# Altium footprint library 1_to_5_Pin.PcbLib: 194 footprints (part 1 of 13)
Each footprint in its own frame and in the unit in brackets; x right, y up, seen from the top. Pads: shape width x height; smd on the part's side, far side on the other; paste and mask are expansions set on the pad; w line width, h text height; cw(c..) or ccw(c..) is an arc to the next point about the centre after c.
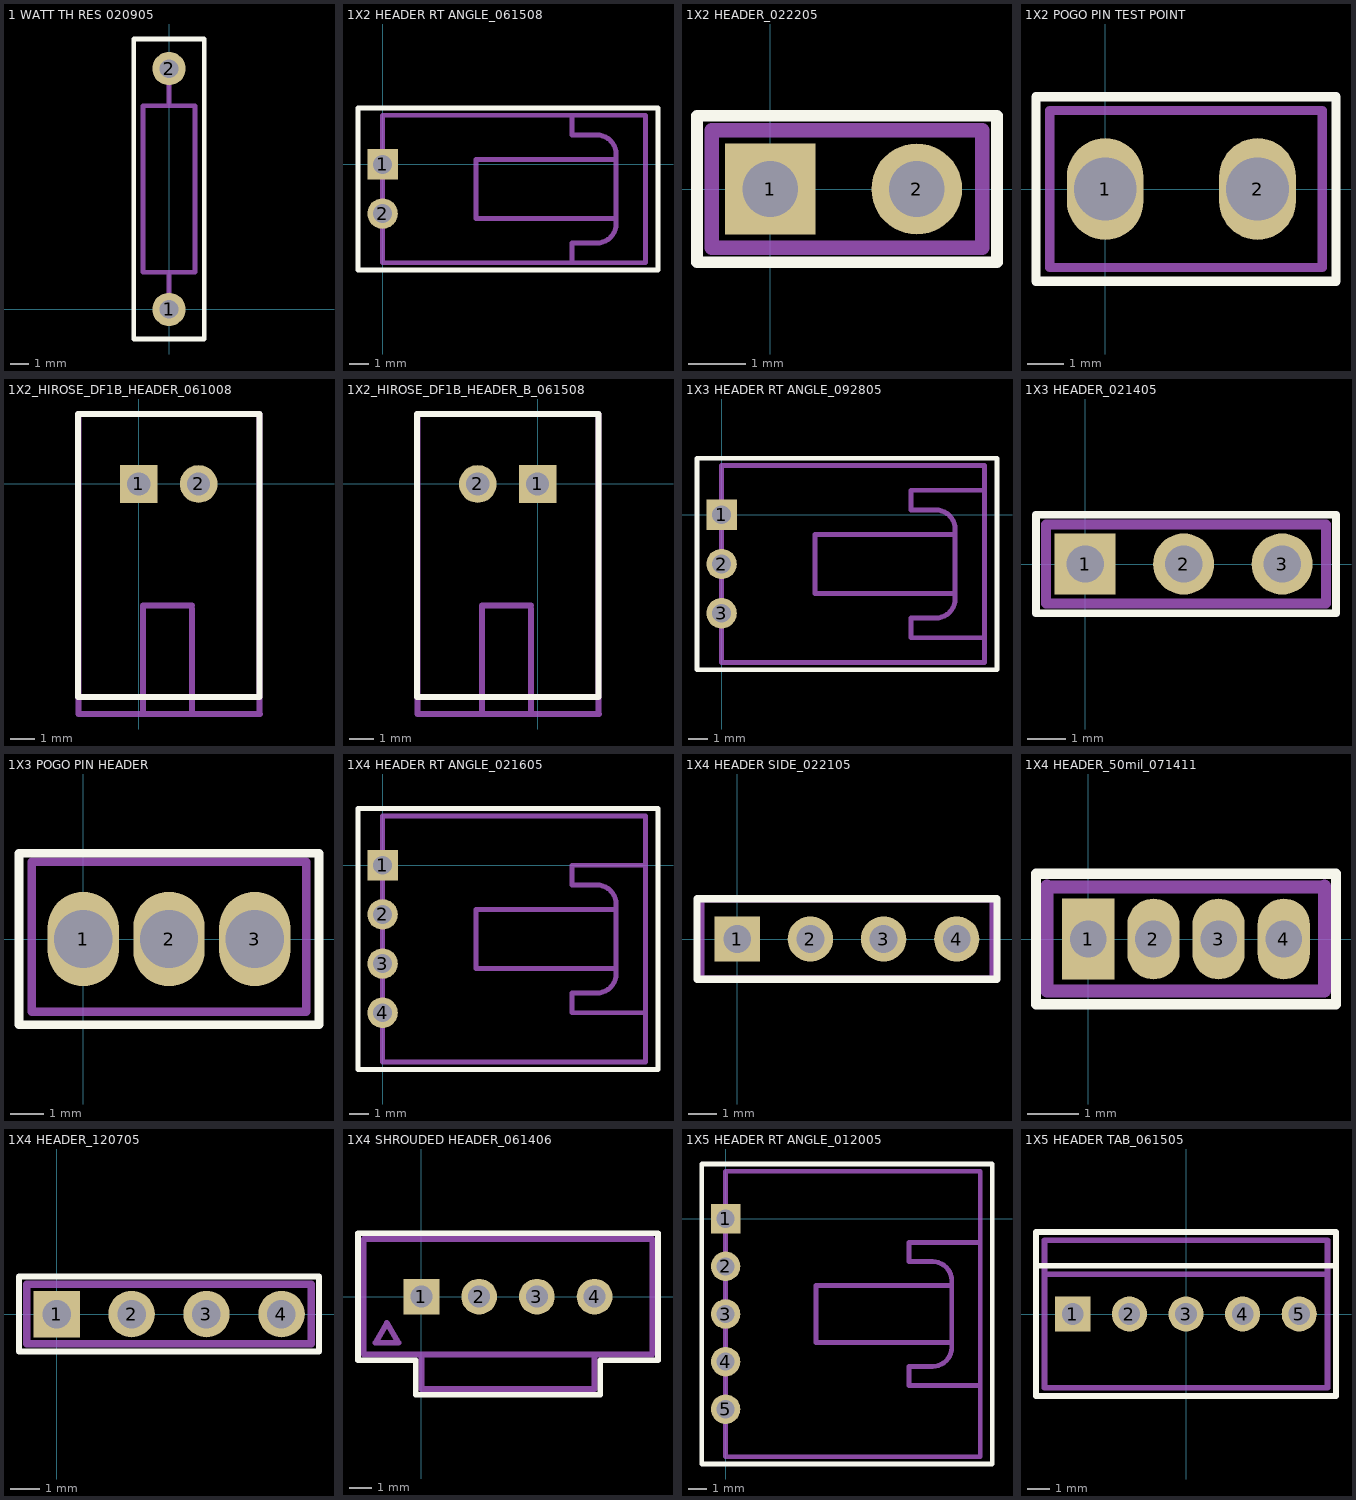
[diagram p0: the footprints below, top view; thin cyan lines are the x and y axes]

## 1 WATT TH RES 020905 [mm] "TH"
height 3.175
pads (2):
  round 1.8 hole 1: 1(0,0) 2(0,13)
Top Overlay:
  lines w0.254: -1.9,-1.6 1.9,-1.6 1.9,14.6 0,14.6 -1.9,14.6 -1.9,-1.6
Assembly Outline:
  lines w0.254: 0,0 0,2 1.4,2 ; 0,13 0,11 -1.4,11 ; -1.4,11 1.4,11 1.4,2 ; -1.4,11 -1.4,2 1.4,2
Assembly Designator:
  text ".Designator" at -2.286,2.794 h1.52
Assembly Comment:
  text ".Comment" at 3.556,3.683 h1.52

## 1X2 HEADER RT ANGLE_061508 [mil] "TH"
height 200
pads (2):
  rect 62x62 hole 38: 1(0,0)
  round 62 hole 38: 2(0,-100)
Top Overlay:
  lines w10: -50,-215 560,-215 560,115 -50,115 -50,-215
Assembly Outline:
  lines w10: 385,-200 385,-160 435,-160 ccw(c435,-120) 475,-120 475,-50 475,20 ccw(c435,20) 435,60 385,60 385,100 ; 475,-110 190,-110 190,10 475,10 ; 0,-200 535,-200 535,100 0,100 0,-200
Assembly Designator:
  text ".Designator" at 215,-65 h40
Assembly Comment:
  text ".Comment" at 10,-265 h40

## 1X2 HEADER_022205 [mil] "TH"
height 315
pads (2):
  rect 62x62 hole 38: 1(0,0)
  round 62 hole 38: 2(100,0)
Top Overlay:
  lines w8: -50,-50 154.72,-50 154.72,50 -50,50 -50,-50
Assembly Outline:
  lines w10: -40,-40 144.72,-40 144.72,40 -40,40 -40,-40 ; -15,-15 -15,15 15,15 15,-15 -15,-15 ; 85,-15 85,15 115,15 115,-15 85,-15
Assembly Designator:
  text ".Designator" at -20,-20 h40
Assembly Comment:
  text ".Comment" at -75,-100 h40

## 1X2 POGO PIN TEST POINT [mil] "TH"
height 750
pads (2):
  oval 83x110 hole 68: 1(0,0) 2(165,0)
Top Overlay:
  lines w10: -75,-100 250,-100 250,100 0,100 -75,100 -75,-100
Assembly Outline:
  lines w10: -60,-85 235,-85 235,85 -60,85 -60,-85
Assembly Designator:
  text ".Designator" at 50,-15 h40
Assembly Comment:
  text ".Comment" at -80,-145 h40

## 1X2_HIROSE_DF1B_HEADER_061008 [mil] "TH"
height 225
pads (2):
  rect 62x62 hole 38: 1(0,0)
  round 62 hole 38: 2(98.43,0)
Top Overlay:
  lines w10: -99.87,-350 -99.87,115 198.3,115 198.3,-350 -99.87,-350
Assembly Outline:
  lines w10: 7.13,-375 7.13,-200 87.13,-200 ; 87.13,-375 87.13,-205 ; 198.3,-378 198.3,115 -99.37,115 -99.37,-378 199.21,-378
Assembly Designator:
  text ".Designator" at -31.87,132 h40
Assembly Comment:
  text ".Comment" at -50.87,-93 h40

## 1X2_HIROSE_DF1B_HEADER_B_061508 [mil] "TH"
height 225
pads (2):
  rect 62x62 hole 38: 1(0,0)
  round 62 hole 38: 2(-98.43,0)
Top Overlay:
  lines w10: -198.3,-350 99.87,-350 99.87,115 -198.3,115 -198.3,-350
Assembly Outline:
  lines w10: -91.3,-375 -91.3,-200 -11.3,-200 ; -11.3,-375 -11.3,-205 ; 99.87,-378 99.87,115 -197.8,115 -197.8,-378 100.79,-378
Assembly Designator:
  text ".Designator" at -130.3,132 h40
Assembly Comment:
  text ".Comment" at -149.3,-93 h40

## 1X3 HEADER RT ANGLE_092805 [mil] "TH"
height 200
pads (3):
  rect 62x62 hole 38: 1(0,0)
  round 62 hole 38: 2(0,-100) 3(0,-200)
Top Overlay:
  lines w10: -50,-315 -50,115 560,115 560,-315 -50,-315
Assembly Outline:
  lines w10: 475,-160 190,-160 190,-40 475,-40 ; 535,-250 385,-250 385,-210 435,-210 ccw(c435,-170) 475,-170 475,-100 475,-30 ccw(c435,-30) 435,10 385,10 385,50 535,50 ; 0,-300 0,100 535,100 535,-300 0,-300
Assembly Designator:
  text ".Designator" at 215,-115 h40
Assembly Comment:
  text ".Comment" at 135,-370 h40

## 1X3 HEADER_021405 [mil] "TH"
height 375
pads (3):
  rect 62x62 hole 38: 1(0,0)
  round 62 hole 38: 2(100,0) 3(200,0)
Top Overlay:
  lines w8: -50,-50 254.72,-50 254.72,50 -50,50 -50,-50
Assembly Outline:
  lines w10: -40,-40 244.72,-40 244.72,40 -40,40 -40,-40 ; -10,-10 10,-10 10,10 -10,10 -10,-10 ; 90,-10 90,10 110,10 110,-10 90,-10 ; 190,-10 190,10 210,10 210,-10 190,-10
Assembly Designator:
  text ".Designator" at -20,-15 h40
Assembly Comment:
  text ".Comment" at -40,-100 h40

## 1X3 POGO PIN HEADER [mil] "TH"
height 350
pads (3):
  oval 83x110 hole 68: 1(0,0) 2(100,0) 3(200,0)
Top Overlay:
  lines w10: -75,-100 275,-100 275,100 100,100 -75,100 -75,-100
Assembly Outline:
  lines w10: -60,-85 260,-85 260,90 -60,90 -60,-85
Assembly Designator:
  text ".Designator" at 40,120 h40
Assembly Comment:
  text ".Comment" at -70,-150 h40

## 1X4 HEADER RT ANGLE_021605 [mil] "TH"
height 200
pads (4):
  rect 62x62 hole 38: 1(0,0)
  round 62 hole 38: 2(0,-100) 3(0,-200) 4(0,-300)
Top Overlay:
  lines w10: -50,-415 -50,115 560,115 560,-415 -50,-415
Assembly Outline:
  lines w10: 0,-400 0,100 ; 0,-400 535,-400 ; 0,-400 535,-400 ; 0,-400 535,-400 ; 0,-400 535,-400 ; 0,-400 0,100 ; 0,100 535,100 ; 0,100 535,100 ; 0,100 535,100 ; 0,100 535,100 ; 190,-210 475,-210 190,-210 ; 190,-210 190,-90 ; 190,-90 475,-90 190,-90 ; 385,-300 535,-300 385,-300 ; 385,-300 385,-260 435,-260 ccw(c435,-220) 475,-220 475,-150 475,-80 ccw(c435,-80) 435,-40 385,-40 385,0 ; 385,0 535,0 385,0 ; 535,-400 535,100
Assembly Designator:
  text ".Designator" at 195,-165 h40
Assembly Comment:
  text ".Comment" at 55,-370 h40

## 1X4 HEADER SIDE_022105 [mil] "TH"
height 315
pads (4):
  rect 62x62 hole 38: 1(0,0)
  round 62 hole 38: 2(100,0) 3(200,0) 4(300,0)
Top Overlay:
  lines w10: -55,-55 355,-55 355,55 -55,55 -55,-55
Assembly Outline:
  lines w10: -50,-55 350,-55 350,55 150,55 -50,55 -50,-55 ; -15,-15 15,-15 15,15 -15,15 -15,-15 ; 85,-15 115,-15 115,15 85,15 85,-15 ; 185,-15 215,-15 215,15 185,15 185,-15 ; 285,-15 315,-15 315,15 285,15 285,-15
Assembly Designator:
  text ".Designator" at 10,-20 h40
Assembly Comment:
  text ".Comment" at -40,-110 h40

## 1X4 HEADER_50mil_071411 [mil] "TH"
height 315
pads (4):
  rect 40x62 hole 28 mask+2: 1(0,0)
  oval 40x62 hole 28 mask+2: 2(50,0) 3(100,0) 4(150,0)
Top Overlay:
  lines w8: -40,-50 190,-50 190,50 -40,50 -40,-50
Assembly Outline:
  lines w10: -31.5,-40 181,-40 ; -31.5,-39.37 -31.5,40.63 ; -31.5,40 181,40 ; 181.1,-39.37 181.1,40.63 ; -7.87,-7.87 7.87,-7.87 7.87,7.87 -7.87,7.87 -7.87,-7.87 ; 42.13,-7.87 57.87,-7.87 57.87,7.87 42.13,7.87 42.13,-7.87 ; 92.13,-7.87 107.87,-7.87 107.87,7.87 92.13,7.87 92.13,-7.87 ; 142.13,-7.87 157.87,-7.87 157.87,7.87 142.13,7.87 142.13,-7.87
Assembly Designator:
  text ".Designator" at 94,92 h30
Assembly Comment:
  text ".Comment" at 25,-60 h10

## 1X4 HEADER_120705 [mil] "TH"
height 315
pads (4):
  rect 62x62 hole 38: 1(0,0)
  round 62 hole 38: 2(100,0) 3(200,0) 4(300,0)
Top Overlay:
  lines w8: -50,-50 -50,50 350,50 350,-50 -50,-50
Assembly Outline:
  lines w10: 287,-12 287,13 ; 287,-12 312,-12 ; 287,-12 287,13 ; 287,-12 312,-12 ; 287,13 312,13 ; 287,13 312,13 ; 312,-12 312,13 ; 312,-12 312,13 ; -40,-40 -40,40 340,40 340,-40 -40,-40 ; -13,-12 -13,13 12,13 12,-12 -13,-12 ; 87,-12 87,13 112,13 112,-12 87,-12 ; 187,-12 187,13 212,13 212,-12 187,-12
Assembly Designator:
  text ".Designator" at 120,-105 h40
Assembly Comment:
  text ".Comment" at 5,60 h40

## 1X4 SHROUDED HEADER_061406 [mil] "TH"
height 533.86
pads (4):
  rect 62x62 hole 38: 1(0,0)
  round 62 hole 38: 2(100,0) 3(200,0) 4(300,0)
Top Overlay:
  lines w10: -110,-110 -10,-110 -10,-170 310,-170 310,-110 410,-110 410,110 -110,110 -110,-110
Assembly Outline:
  lines w10: 0,-100 0,-160 150,-160 300,-160 300,-100 ; -100,-100 -100,0 -100,100 400,100 400,-100 -100,-100 ; -80,-80 -40,-80 -60,-45.36 -80,-80
Assembly Designator:
  text ".Designator" at 107.2,-83.35 h40
Assembly Comment:
  text ".Comment" at -77.76,45.28 h40

## 1X5 HEADER RT ANGLE_012005 [mil] "TH"
height 275
pads (5):
  rect 62x62 hole 38: 1(0,0)
  round 62 hole 38: 2(0,-100) 3(0,-200) 4(0,-300) 5(0,-400)
Top Overlay:
  lines w10: -50,-515 -50,115 560,115 560,-515 -50,-515
Assembly Outline:
  lines w10: 190,-200 190,-140 ; 0,-500 0,100 ; 0,-500 0,100 ; 0,-500 535,-500 ; 0,-500 535,-500 ; 0,-500 535,-500 ; 0,-500 535,-500 ; 0,100 535,100 ; 0,100 535,100 ; 0,100 535,100 ; 0,100 535,100 ; 190,-260 475,-260 190,-260 ; 190,-260 190,-140 ; 190,-140 475,-140 190,-140 ; 385,-350 535,-350 385,-350 ; 385,-350 385,-310 435,-310 ccw(c435,-270) 475,-270 475,-200 475,-130 ccw(c435,-130) 435,-90 385,-90 385,-50 ; 385,-50 535,-50 385,-50 ; 535,-500 535,100
Assembly Designator:
  text ".Designator" at 165,-100 h40
Assembly Comment:
  text ".Comment" at 25,-475 h40

## 1X5 HEADER TAB_061505 [mil] "TH"
height 750
pads (5):
  rect 62x62 hole 38: 1(-200,0)
  round 62 hole 38: 2(-100,0) 3(0,0) 4(100,0) 5(200,0)
Top Overlay:
  lines w10: 265,85 -265,85 -265,145 ; -265,145 -265,-145 265,-145 265,145 0,145 -265,145
Assembly Outline:
  lines w10: 250,70 -250,70 -250,130 ; -250,130 -250,-130 250,-130 250,130 0,130 -250,130
Assembly Designator:
  text ".Designator" at -25,-90 h40
Assembly Comment:
  text ".Comment" at -230,-205 h40